# Altium schematic symbol library 智能车主板.SchLib: 3 symbols
Pins are listed as number, name and electrical type; pins without a type are passive.

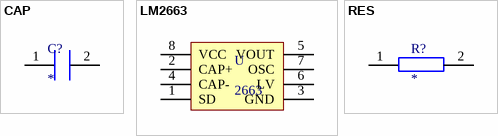
[diagram p0: symbols CAP to RES]

## CAP
designator C?
电容
pins: 1, 2

## LM2663
designator U, comment 2663
IC
pins: 1 SD, 2 CAP+, 3 GND, 4 CAP-, 5 VOUT, 6 LV, 7 OSC, 8 VCC

## RES
designator R?
电阻
footprint 0402R (Footprint not found)
pins: 1, 2